# EAGLE library part TB6612FNG (library RPiAutonomousCar)
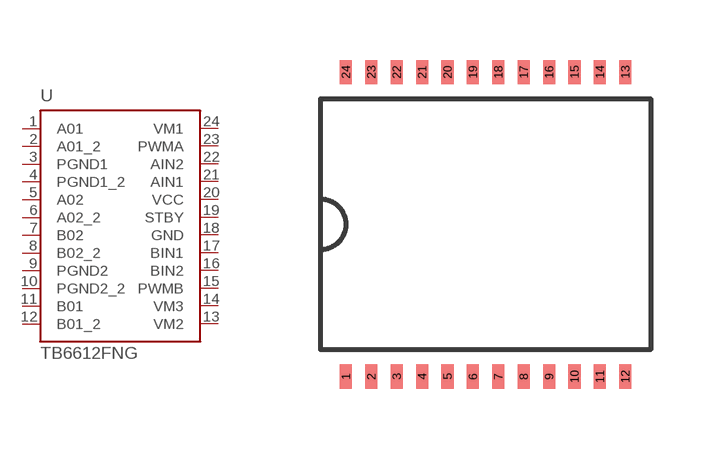
[diagram p7: symbol with the pads of SSOP24; footprint SSOP24]

Designator prefix -

## TB6612FNG  [SSOP24]
1  A01
2  A01_2  in
3  PGND1  in
4  PGND1_2
5  A02
6  A02_2
7  B02
8  B02_2
9  PGND2
10  PGND2_2
11  B01  in
12  B01_2  in
13  VM2
14  VM3
15  PWMB
16  BIN2
17  BIN1
18  GND
19  STBY
20  VCC
21  AIN1  in
22  AIN2  in
23  PWMA  in
24  VM1  in

## Footprint SSOP24 (pad centres in mm)
smd 0.305 x 0.61: 1 -3.493,-3.81; 2 -2.857,-3.81; 3 -2.223,-3.81; 4 -1.587,-3.81; 5 -0.953,-3.81; 6 -0.318,-3.81; 7 0.318,-3.81; 8 0.953,-3.81; 9 1.587,-3.81; 10 2.223,-3.81; 11 2.857,-3.81; 12 3.493,-3.81; 13 3.493,3.81; 14 2.857,3.81; 15 2.223,3.81; 16 1.587,3.81; 17 0.953,3.81; 18 0.318,3.81; 19 -0.318,3.81; 20 -0.953,3.81; 21 -1.587,3.81; 22 -2.223,3.81; 23 -2.857,3.81; 24 -3.493,3.81